# EAGLE library part AK5572 (library cdp)
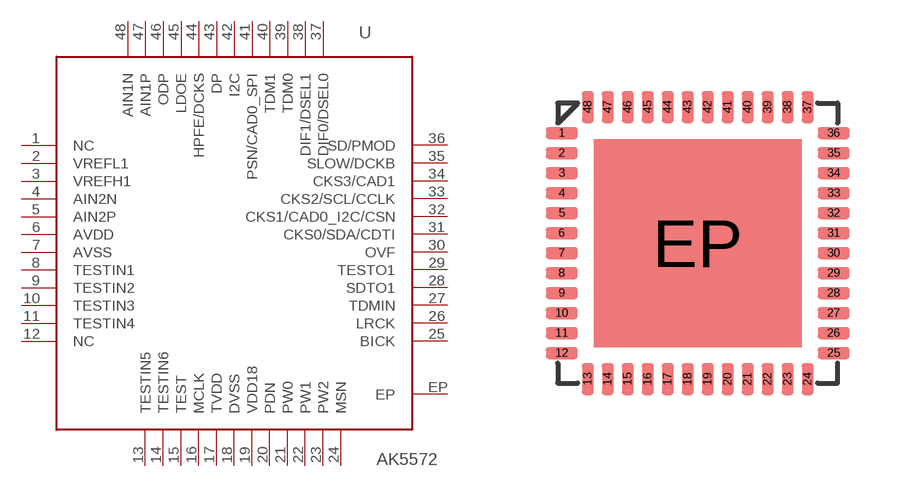
[diagram p43: symbol with the pads of QFN48_EP_AKM; footprint QFN48_EP_AKM]

Designator prefix U

## AK5572  [QFN48_EP_AKM]
1  NC
2  VREFL1
3  VREFH1
4  AIN2N
5  AIN2P
6  AVDD
7  AVSS
8  TESTIN1
9  TESTIN2
10  TESTIN3
11  TESTIN4
12  NC
13  TESTIN5
14  TESTIN6
15  TEST
16  MCLK
17  TVDD
18  DVSS
19  VDD18
20  PDN
21  PW0
22  PW1
23  PW2
24  MSN
25  BICK
26  LRCK
27  TDMIN
28  SDTO1
29  TESTO1
30  OVF
31  CKS0/SDA/CDTI
32  CKS1/CAD0_I2C/CSN
33  CKS2/SCL/CCLK
34  CKS3/CAD1
35  SLOW/DCKB
36  SD/PMOD
37  DIF0/DSEL0
38  DIF1/DSEL1
39  TDM0
40  TDM1
41  PSN/CAD0_SPI
42  I2C
43  DP
44  HPFE/DCKS
45  LDOE
46  ODP
47  AIN1P
48  AIN1N
EP  EP

## Footprint QFN48_EP_AKM (pad centres in mm)
smd 0.8 x 0.3: 1 -3.4,2.75; 2 -3.4,2.25; 3 -3.4,1.75; 4 -3.4,1.25; 5 -3.4,0.75; 6 -3.4,0.25; 7 -3.4,-0.25; 8 -3.4,-0.75; 9 -3.4,-1.25; 10 -3.4,-1.75; 11 -3.4,-2.25; 12 -3.4,-2.75; 25 3.4,-2.75; 26 3.4,-2.25; 27 3.4,-1.75; 28 3.4,-1.25; 29 3.4,-0.75; 30 3.4,-0.25; 31 3.4,0.25; 32 3.4,0.75; 33 3.4,1.25; 34 3.4,1.75; 35 3.4,2.25; 36 3.4,2.75
smd 0.3 x 0.8: 13 -2.75,-3.4; 14 -2.25,-3.4; 15 -1.75,-3.4; 16 -1.25,-3.4; 17 -0.75,-3.4; 18 -0.25,-3.4; 19 0.25,-3.4; 20 0.75,-3.4; 21 1.25,-3.4; 22 1.75,-3.4; 23 2.25,-3.4; 24 2.75,-3.4; 37 2.75,3.4; 38 2.25,3.4; 39 1.75,3.4; 40 1.25,3.4; 41 0.75,3.4; 42 0.25,3.4; 43 -0.25,3.4; 44 -0.75,3.4; 45 -1.25,3.4; 46 -1.75,3.4; 47 -2.25,3.4; 48 -2.75,3.4
smd 5.2 x 5.2: EP 0,0